# Altium integrated library BC327.IntLib: 1 symbol
Pins are listed as number, name and electrical type; pins without a type are passive.

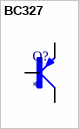
[diagram p0: symbol BC327]

## BC327
designator Q?
Bipolar (BJT) Transistor PNP 45V 800mA 260MHz 625mW Through Hole TO-92 (TO-226); MP: BC327; MF: ON Semiconductor; Check_prices: https://www.snapeda.com/parts/BC327/Onsemi/view-part/?ref=eda; Value: *; Availability: In Stock; Price: None; Package: E-PKG AXIAL-LEADED-2 ON Semiconductor; SnapEDA_Link: https://www.snapeda.com/parts/BC327/Onsemi/view-part/?ref=snap; Purchase-URL: https://pricing.snapeda.com/search/part/BC327/?ref=eda
footprint SOT54A
pins: B, C, E